# Altium schematic symbol library HB9500M-9.5-2P.SchLib: 1 symbol
Pins are listed as number, name and electrical type; pins without a type are passive.

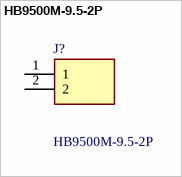
[diagram p0: symbol HB9500M-9.5-2P]

## HB9500M-9.5-2P
designator J?
1x2P Corner pin Barrier Block 2 1 9.5mm -40+105 32A 750V Black 1222 Straight pin 4 PluginP9.5mm  Barrier Terminal Blocks ROHS; Manufacturer_Name: Ningbo Kangnex; Geometry.Height: 16.95mm; Manufacturer_Part_Number: HB9500M-9.5-2P; Mouser Part Number: *; Mouser Price/Stock: *; Arrow Part Number: *; Arrow Price/Stock: *; Datasheet Link: https://www.lcsc.com/datasheet/lcsc_datasheet_2304140030_Ningbo-Kangnex-Elec-HB9500M-9-5-2P_C601239.pdf
footprint HB9500M952P
pins: 1, 2